# EAGLE library part USB3150-30-130-A (library RPi-Parts)
Vertical Through Hole Type B Micro USB Plug w/ Shell Stakes and Pegs
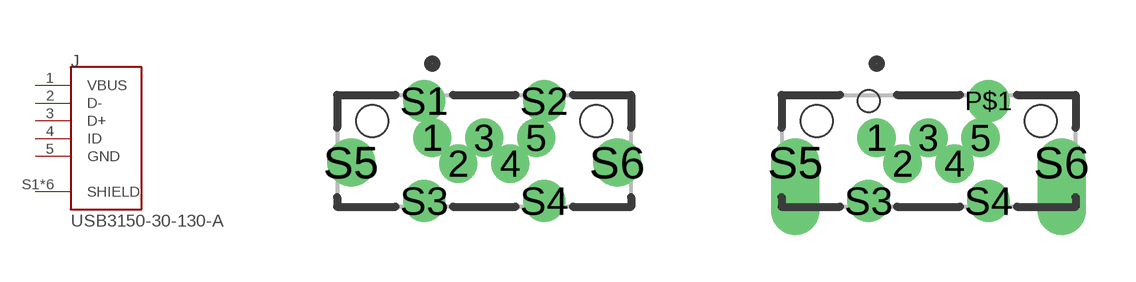
[diagram p0: symbol with the pads of GCT_USB3150-30-130-A; footprints GCT_USB3150-30-130-A, GCT_USB3150-30-EASIER]

Designator prefix J

## USB3150-30-130-A (AVAILABILITY: Unavailable; DESCRIPTION: USB - micro B USB 2.0 Plug Connector 5 Position Through Hole; MF: Global Connector Technology; MP: USB3150-30-130-A; PACKAGE: None; PRICE: None)  [GCT_USB3150-30-130-A]
1  VBUS  pas
2  D-  pas
3  D+  pas
4  ID  pas
5  GND  pas
S1  SHIELD  pas
S2  SHIELD  pas
S3  SHIELD  pas
S4  SHIELD  pas
S5  SHIELD  pas
S6  SHIELD  pas

## USB3150-30-130-AMANUFACTURABLE  [GCT_USB3150-30-EASIER]
1  VBUS  pas
2  D-  pas
3  D+  pas
4  ID  pas
5  GND  pas
P$1  SHIELD  pas
S3  SHIELD  pas
S4  SHIELD  pas
S5  SHIELD  pas
S6  SHIELD  pas

## Footprint GCT_USB3150-30-130-A (pad centres in mm)
drill 0.45 pad 0.75: 1 -1.3,0.65; 2 -0.65,0; 3 0,0.65; 4 0.65,0; 5 1.3,0.65
drill 0.55 pad 0.79: S1 -1.5,1.57; S2 1.5,1.57; S3 -1.5,-0.93; S4 1.5,-0.93
drill 0.7 pad 1.1: S5 -3.325,0.03; S6 3.325,0.03
hole 0.8 at -2.8,1.07
hole 0.8 at 2.8,1.07

## Footprint GCT_USB3150-30-EASIER (pad centres in mm)
drill 0.45 pad 0.635: 1 -1.3,0.65; 2 -0.65,0; 3 0,0.65; 4 0.65,0; 5 1.3,0.65
drill 0.55 pad 0.813: P$1 1.499,1.57
drill 0.55 pad 0.79: S3 -1.5,-0.93; S4 1.5,-0.93
drill 0.7 pad 1.016 offset: S5 -3.325,0.03; S6 3.325,0.03
hole 0.8 at -2.8,1.07
hole 0.8 at 2.8,1.07
hole 0.55 at -1.499,1.57